# Altium footprint library Power Board UCC28951.PcbLib: 44 footprints (part 2 of 3)
Each footprint in its own frame and in the unit in brackets; x right, y up, seen from the top. Pads: shape width x height; smd on the part's side, far side on the other; paste and mask are expansions set on the pad; w line width, h text height; cw(c..) or ccw(c..) is an arc to the next point about the centre after c.
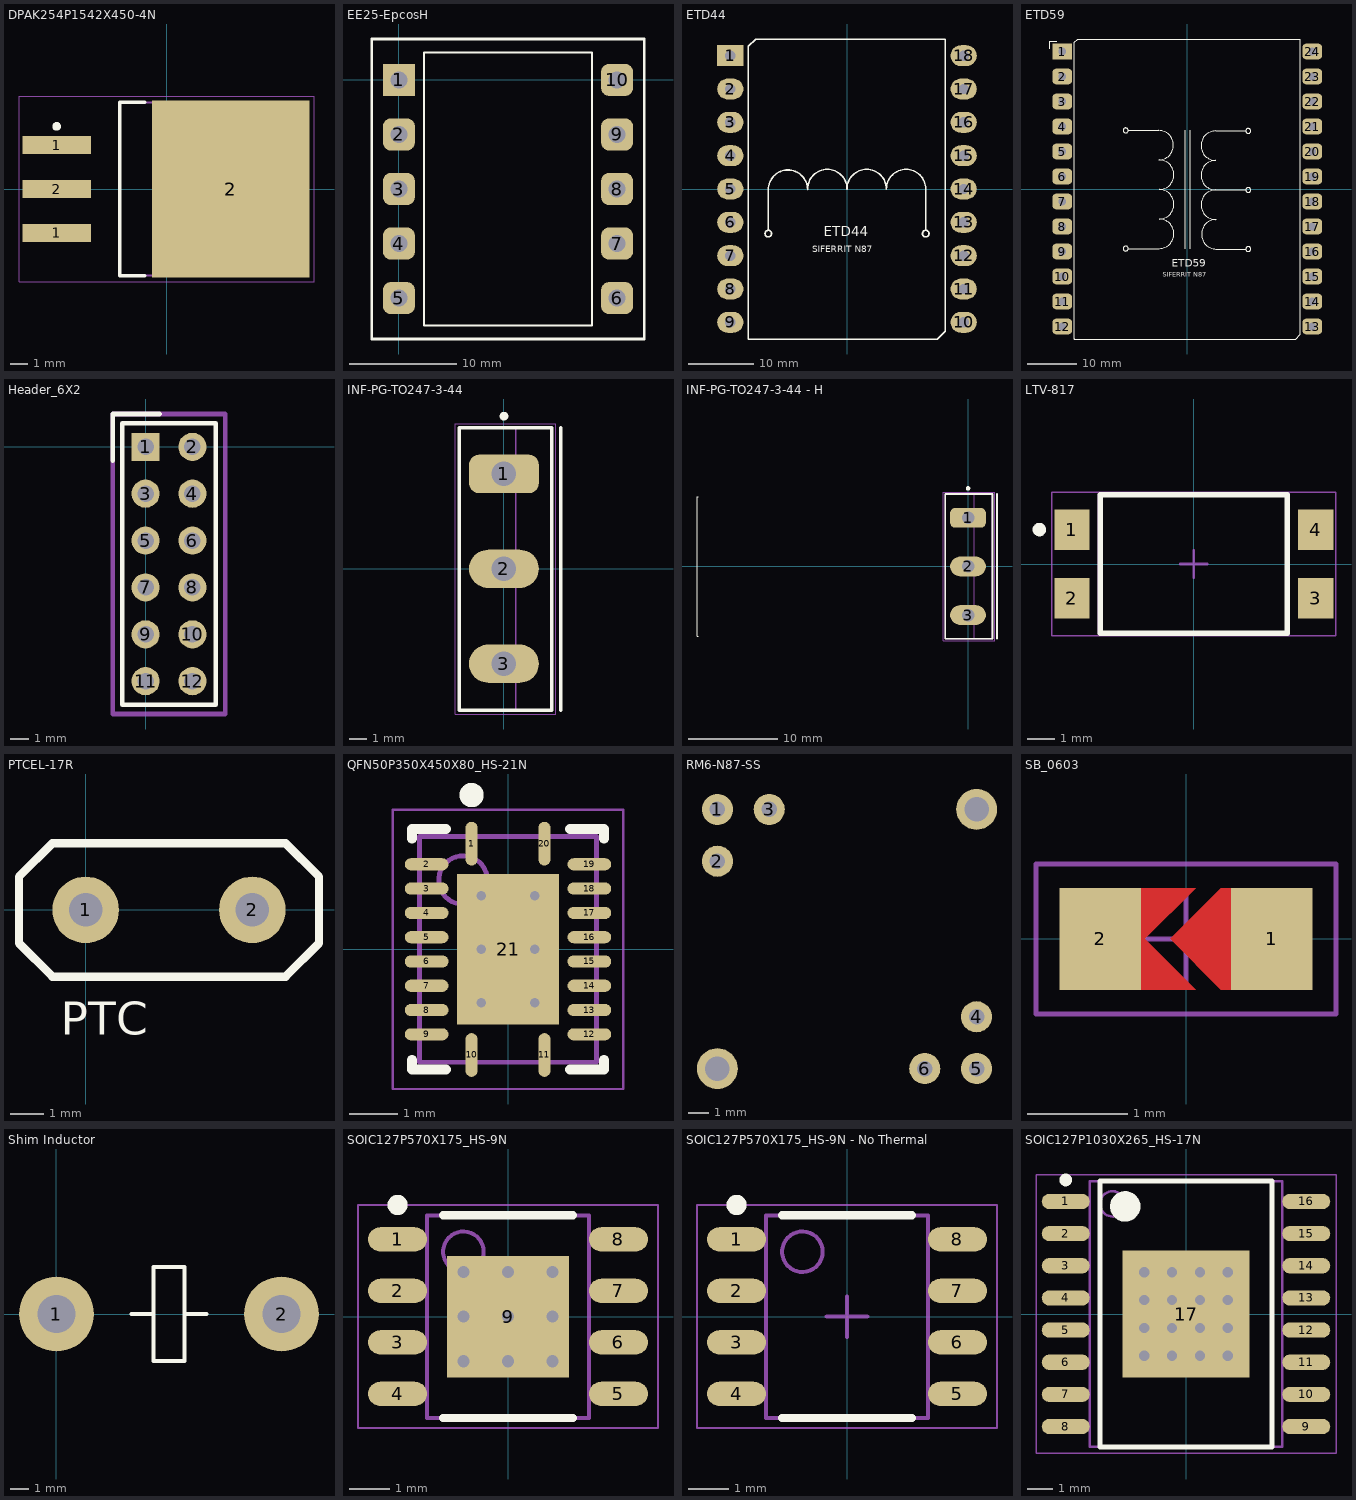
[diagram p1: the footprints below, top view; thin cyan lines are the x and y axes]

## DPAK254P1542X450-4N [mm] "D2-PAK, 3-Pads, Body 7.60x8.36mm (max), IPC Medium Density"
height 4.5
pads (4):
  rect 3.95x1.05 smd: 1(-6.35,-2.54) 1(-6.35,2.54) 2(-6.35,0)
  rect 9.1x10.2 smd: 2(3.7,0)
Top Overlay:
  circle w0.25: c-6.35,3.615 r0.125
  lines w0.2: -1.25,-5 -2.7,-5 -2.7,5 -1.25,5
Mechanical 13:
  lines w0.1: -2.7,-5 -2.7,5 6.3,5 6.3,-5 -2.7,-5
Mechanical 15:
  lines w0.05: -8.525,-5.35 -8.525,5.35 8.525,5.35 8.525,-5.35 -8.525,-5.35
  lines w0.1: -0.5,0 0.5,0 ; 0,-0.5 0,0.5
3D body "TO-263-2.step": height 4.42, standoff 0, extent -7.5,-5 7.5,5

## EE25-EpcosH [mm]
pads (10):
  rect 3x3 hole 1.6: 1(0,0)
  rrect50% 3x3 hole 1.6: 2(0,-5.08) 3(0,-10.16) 4(0,-15.24) 5(0,-20.32) 6(20.32,-20.32) 7(20.32,-15.24) 8(20.32,-10.16) 9(20.32,-5.08) 10(20.32,0)
Top Overlay:
  lines w0.2: 2.335,-22.86 2.335,2.54 11.43,2.54 17.985,2.54 17.985,-22.86 2.335,-22.86
  lines w0.254: -2.54,-24.13 22.86,-24.13 22.86,3.81 -2.54,3.81 -2.54,2.54 -2.54,-24.13
Mechanical 1:
  text "'.Designator'" at 10.033,-18.034 h1.52
3D body "E25-13-7-and-B66208B(horizontal).STEP": height 20.9, standoff -3.1, extent -3.9,-23.91 24.1,3.59

## ETD44 [mm]
pads (18):
  rect 4x3.2 hole 1.6: 1(-17.78,20.32)
  oval 4x3.2 hole 1.6: 2(-17.78,15.24) 3(-17.78,10.16) 4(-17.78,5.08) 5(-17.78,0) 6(-17.78,-5.08) 7(-17.78,-10.16) 8(-17.78,-15.24) 9(-17.78,-20.32) 10(17.78,-20.32) 11(17.78,-15.24) 12(17.78,-10.16) 13(17.78,-5.08) 14(17.78,0) 15(17.78,5.08) 16(17.78,10.16) 17(17.78,15.24) 18(17.78,20.32)
Top Overlay:
  circle w0.254: c-12,-6.8 r0.5
  circle w0.254: c12,-6.8 r0.5
  lines w0.2: -15.03,-22.86 13.765,-22.86 14.945,-21.68 14.945,22.86 1.27,22.86 -13.89,22.86 -15.03,21.72 -15.03,-22.86
  lines w0.254: -12,-6.2 -12,-0.1 cw(c-9,-0.1) -6,-0.1 ; -6,0 cw(c-3,0) 0,0 cw(c3,0) 6,0 cw(c9,0) 12,0 12,-6.2
  text "SIFERRIT N87" at -5.296,-9.621 h1
  text "ETD44" at -3.521,-7.171 h1.52
3D body "User Library-ETD44_NO_AIRGAP.STEP": height 38.1, standoff -4.5, extent -25.5,-24.8 25.5,24.8

## ETD59 [mm]
pads (24):
  rect 4x3.2 hole 1.6: 1(-25.4,27.94)
  rrect50% 4x3.2 hole 1.6: 2(-25.4,22.86) 3(-25.4,17.78) 4(-25.4,12.7) 5(-25.4,7.62) 6(-25.4,2.54) 7(-25.4,-2.54) 8(-25.4,-7.62) 9(-25.4,-12.7) 10(-25.4,-17.78) 11(-25.4,-22.86) 12(-25.4,-27.94) 13(25.4,-27.94) 14(25.4,-22.86) 15(25.4,-17.78) 16(25.4,-12.7) 17(25.4,-7.62) 18(25.4,-2.54) 19(25.4,2.54) 20(25.4,7.62) 21(25.4,12.7) 22(25.4,17.78) 23(25.4,22.86) 24(25.4,27.94)
Top Overlay:
  circle w0.254: c-12.5,11.9 r0.5
  circle w0.254: c-12.5,-12.1 r0.5
  circle w0.254: c12.4,11.8 r0.5
  circle w0.254: c12.4,-0.2 r0.5
  circle w0.254: c12.4,-12.2 r0.5
  lines w0.2: -27.9,28.5 -27.9,29 -27.9,30 -26.5,30 ; -22.965,-30.48 -22.965,29.785 -22.27,30.48 -1.27,30.48 ; -22.965,-30.465 -22.95,-30.48 22.02,-30.48 22.965,-29.535 22.965,30.48 -1.4,30.48 ; -0.4,-12.1 -0.4,11.9 ; 0.6,-12.1 0.6,11.9
  lines w0.254: -11.9,-12.1 -5.7,-12.1 ccw(c-5.7,-9.1) -5.7,-6.1 ccw(c-5.7,-3.1) -5.7,-0.1 ccw(c-5.7,2.9) -5.7,5.9 ; -11.9,11.9 -5.8,11.9 cw(c-5.8,8.9) -5.8,5.9 ; 5.8,-12.2 11.9,-12.2 ; 5.8,-6.2 cw(c5.8,-3.2) 5.8,-0.2 ; 5.9,-12.2 cw(c5.9,-9.2) 5.9,-6.2 ; 11.9,-0.2 5.8,-0.2 ; 11.9,11.8 5.8,11.8 ccw(c5.8,8.8) 5.8,5.8 ccw(c5.8,2.8) 5.8,-0.2
  text "SIFERRIT N87" at -4.946,-17.846 h1
  text "ETD59" at -3.146,-15.846 h1.52
3D body "User Library-ETD59.STEP": height 51.31, standoff -1.69, extent -32.953,-35.86 33.146,31.04

## Header_6X2 [mil]
pads (12):
  rect 60x60 hole 35.43: 1(0,0)
  round 60 hole 35.43: 2(100,0) 3(0,-100) 4(100,-100) 5(0,-200) 6(100,-200) 7(0,-300) 8(100,-300) 9(0,-400) 10(100,-400) 11(0,-500) 12(100,-500)
Top Overlay:
  lines w10: -70,-30 -70,70 30,70 ; -50,-550 -50,50 150,50 150,-550 -30,-550 -50,-550
Mechanical 13:
  lines w10: -70,-570 -70,70 170,70 170,-570 -70,-570
  text "'.Designator'" at -129.99,-600 h60
3D body "PinHeader_2x06_P2.54mm_Horizontal.step": height 200, standoff -118.11, extent -12.59,-550 495.28,50

## INF-PG-TO247-3-44 [mm] "FM, 3-Leads, Body 5.02x15.94mm, Pitch 5.44mm"
height 25.5
pads (3):
  rrect50% 4x2.2 hole 1.4: 1(0,5.44)
  oval 4x2.2 hole 1.4: 2(0,0) 3(0,-5.44)
Top Overlay:
  circle w0.25: c0,8.75 r0.125
  lines w0.2: 3.245,-8.1 3.245,8.1 ; -2.555,-8.1 2.745,-8.1 2.745,8.1 -2.555,8.1 -2.555,-8.1
Mechanical 13:
  lines w0.1: 0.67,-8.075 0.67,8.075 ; -2.53,-8.075 -2.53,8.075 2.72,8.075 2.72,-8.075 -2.53,-8.075
Mechanical 15:
  lines w0.05: -2.78,-8.325 -2.78,8.325 2.97,8.325 2.97,-8.325 -2.78,-8.325
  lines w0.1: -0.5,0 0.5,0 ; 0,-0.5 0,0.5
3D body "TO-247-3_Vertical.step": height 26.54, standoff -14.56, extent -2.33,-7.96 2.7,7.94

## INF-PG-TO247-3-44 - H [mm] "FM, 3-Leads, Body 5.02x15.94mm, Pitch 5.44mm"
height 25.5
pads (3):
  rrect50% 4x2.2 hole 1.4: 1(0,5.44)
  oval 4x2.2 hole 1.4: 2(0,0) 3(0,-5.44)
Top Overlay:
  circle w0.25: c0,8.75 r0.125
  lines w0.05: -30.2,-7.8 -30.35,-7.8 -30.35,7.8 -30.2,7.8
  lines w0.2: 3.245,-8.1 3.245,8.1 ; -2.555,-8.1 2.745,-8.1 2.745,8.1 -2.555,8.1 -2.555,-8.1
Mechanical 13:
  lines w0.1: 0.67,-8.075 0.67,8.075 ; -2.53,-8.075 -2.53,8.075 2.72,8.075 2.72,-8.075 -2.53,-8.075
Mechanical 15:
  lines w0.05: -2.78,-8.325 -2.78,8.325 2.97,8.325 2.97,-8.325 -2.78,-8.325
  lines w0.1: -0.5,0 0.5,0 ; 0,-0.5 0,0.5
3D body "TO-247_horizontal_back_line.stp": height 5.01, standoff -3.59, extent -30.346,-7.8 0.254,7.8

## LTV-817 [mm]
pads (4):
  rect 1.3x1.5 smd: 1(-4.5,1.27) 2(-4.5,-1.27) 3(4.5,-1.27) 4(4.5,1.27)
Top Overlay:
  circle w0.25: c-5.7,1.27 r0.125
  lines w0.2: -3.45,-2.55 3.45,-2.55 3.45,2.55 -3.45,2.55 -3.45,-2.55
Mechanical 13:
  lines w0.1: -3.5,-2.55 3.5,-2.55 3.5,2.55 -3.5,2.55 -3.5,-2.55
Mechanical 15:
  lines w0.05: -5.25,-2.65 5.25,-2.65 5.25,2.65 -5.25,2.65 -5.25,-2.65
  lines w0.1: -0.5,0 0.5,0 ; 0,-0.5 0,0.5
3D body "DIP-4_W7.62mm_SMDSocket.step": height 3.68, standoff 0, extent -4.476,-2.6 4.476,2.6

## PTCEL-17R [mm]
pads (2):
  round 2 hole 1: 1(0,0) 2(5,0)
Top Overlay:
  lines w0.254: -2,-1 -1,-2 6,-2 7,-1 7,1 6,2 -1,2 -2,1 -2,-1
  text "PTC" at -0.746,-3.746 h1
3D body "PTCEL17R.x_t": height 23.5, standoff -20, extent -5.25,-3.5 10.25,3.5

## QFN50P350X450X80_HS-21N [mm] "QFN, 20-Leads, Body 3.50x4.50mm, Pitch 1.50mm/0.50mm, Thermal Pad 2.10x3.10mm, IPC Medium Density"
height 0.8
pads (21):
  oval 0.25x0.9 smd: 1(-0.75,2.175) 10(-0.75,-2.175) 11(0.75,-2.175) 20(0.75,2.175)
  oval 0.9x0.25 smd: 2(-1.675,1.75) 3(-1.675,1.25) 4(-1.675,0.75) 5(-1.675,0.25) 6(-1.675,-0.25) 7(-1.675,-0.75) 8(-1.675,-1.25) 9(-1.675,-1.75) 12(1.675,-1.75) 13(1.675,-1.25) 14(1.675,-0.75) 15(1.675,-0.25) 16(1.675,0.25) 17(1.675,0.75) 18(1.675,1.25) 19(1.675,1.75)
  rect 2.1x3.1 smd: 21(0,0)
via 0.55,-1.1 diameter 0.5 hole 0.2
via -0.55,-1.1 diameter 0.5 hole 0.2
via 0.55,0 diameter 0.5 hole 0.2
via -0.55,0 diameter 0.5 hole 0.2
via 0.55,1.1 diameter 0.5 hole 0.2
via -0.55,1.1 diameter 0.5 hole 0.2
Top Overlay:
  circle w0.25: c-0.75,3.175 r0.125
  lines w0.2: -1.975,-2.275 -1.975,-2.475 -1.275,-2.475 ; -1.975,2.275 -1.975,2.475 -1.275,2.475 ; 1.275,-2.475 1.975,-2.475 1.975,-2.275 ; 1.275,2.475 1.975,2.475 1.975,2.275
Mechanical 13:
  circle w0.1: c-0.925,1.425 r0.5
  lines w0.1: -1.825,-2.325 1.825,-2.325 1.825,2.325 -1.825,2.325 -1.825,-2.325
Mechanical 15:
  lines w0.05: -2.375,-2.875 2.375,-2.875 2.375,2.875 -2.375,2.875 -2.375,-2.875
  lines w0.1: -0.5,0 0.5,0 ; 0,-0.5 0,0.5
3D body "QFN50P350X450X80_HS-21N.step": height 0.8, standoff 0, extent -1.875,-2.375 1.875,2.375

## RM6-N87-SS [mil] "TDK"
pads (8):
  round 60 hole 30: 1(200,700) 2(200,600) 3(300,700) 4(700,300) 5(700,200) 6(600,200)
  round 78.74 hole 47.24: ""(200,200) ""(700,700)
3D body "RM6-K-6P-DS.STEP": height 519.68, standoff -66.93, extent -79.87,-80.2 980.79,980.46

## SB_0603 [mil] "Jumper"
height 39.37
pads (2):
  rect 32x40 smd: 1(33.75,0) 2(-33.75,0)
Top Layer:
  region: -26.25,0 -16.25,0 3.75,-20 -26.25,-20
  region: -26.25,0 -16.25,0 3.75,20 -26.25,20
  region: 23.75,20 13.75,20 -6.25,0 13.75,-20 23.75,-20
Top Paste:
  region: -26.25,0 -16.25,0 3.75,-20 -26.25,-20
  region: -26.25,0 -16.25,0 3.75,20 -26.25,20
  region: 23.75,20 13.75,20 -6.25,0 13.75,-20 23.75,-20
Top Solder:
  region: -26.25,0 -12.25,0 11.75,-24 -26.25,-24
  region: -26.25,0 -12.25,0 11.75,24 -26.25,24
  region: 23.75,24 13.75,24 -10.25,0 13.75,-24 23.75,-24
Mechanical 15:
  lines w1.97: -18.7,0 18.7,0 ; 0,-18.7 0,18.7 ; -59.06,-29.53 59.06,-29.53 59.06,29.53 -59.06,29.53 -59.06,-29.53

## Shim Inductor [mm]
pads (2):
  round 4 hole 2: 1(0,0) 2(12,0)
Top Overlay:
  lines w0.2: 4,0 5.175,0 ; 6.825,0 8,0 ; 5.175,0 5.175,2.5 6.825,2.5 6.825,-2.5 5.175,-2.5 5.175,0
3D body "02.STEP": height 25.26, standoff -2.47, extent -0.859,-12.328 12.71,12.028

## SOIC127P570X175_HS-9N [mm] "SOIC, 8-Leads, Body 4.91x3.90mm, Pitch 1.27mm, Thermal Pad 3.00x3.00mm, IPC Medium Density"
height 1.75
pads (9):
  oval 1.45x0.6 smd: 1(-2.725,1.905) 2(-2.725,0.635) 3(-2.725,-0.635) 4(-2.725,-1.905) 5(2.725,-1.905) 6(2.725,-0.635) 7(2.725,0.635) 8(2.725,1.905)
  rect 3x3 smd: 9(0,0)
via 1.1,-1.1 diameter 0.6 hole 0.3
via 0,-1.1 diameter 0.6 hole 0.3
via -1.1,-1.1 diameter 0.6 hole 0.3
via 1.1,0 diameter 0.6 hole 0.3
via 0,0 diameter 0.6 hole 0.3
via -1.1,0 diameter 0.6 hole 0.3
via 1.1,1.1 diameter 0.6 hole 0.3
via 0,1.1 diameter 0.6 hole 0.3
via -1.1,1.1 diameter 0.6 hole 0.3
Top Overlay:
  circle w0.25: c-2.725,2.755 r0.125
  lines w0.2: -1.6,-2.5 1.6,-2.5 ; -1.6,2.5 1.6,2.5
Mechanical 1:
  text "'.Designator'" at -5.334,-4.493 h1
Mechanical 13:
  circle w0.1: c-1.1,1.6 r0.5
  lines w0.1: -2,-2.5 2,-2.5 2,2.5 -2,2.5 -2,-2.5
Mechanical 15:
  lines w0.05: -3.7,-2.75 3.7,-2.75 3.7,2.75 -3.7,2.75 -3.7,-2.75
  lines w0.1: -0.5,0 0.5,0 ; 0,-0.5 0,0.5
3D body "SOIC127P570X175_HS-9N.step": height 1.75, standoff 0.02, extent -2.767,-2.5 2.767,2.5

## SOIC127P570X175_HS-9N - No Thermal [mm] "SOIC, 8-Leads, Body 4.91x3.90mm, Pitch 1.27mm, Thermal Pad 3.00x3.00mm, IPC Medium Density"
height 1.75
pads (8):
  oval 1.45x0.6 smd: 1(-2.725,1.905) 2(-2.725,0.635) 3(-2.725,-0.635) 4(-2.725,-1.905) 5(2.725,-1.905) 6(2.725,-0.635) 7(2.725,0.635) 8(2.725,1.905)
Top Overlay:
  circle w0.25: c-2.725,2.755 r0.125
  lines w0.2: -1.6,-2.5 1.6,-2.5 ; -1.6,2.5 1.6,2.5
Mechanical 1:
  text "'.Designator'" at -5.334,-4.493 h1
Mechanical 13:
  circle w0.1: c-1.1,1.6 r0.5
  lines w0.1: -2,-2.5 -2,2.5 2,2.5 2,-2.5 -2,-2.5
Mechanical 15:
  lines w0.05: -3.7,-2.75 -3.7,2.75 3.7,2.75 3.7,-2.75 -3.7,-2.75
  lines w0.1: -0.5,0 0.5,0 ; 0,-0.5 0,0.5
3D body "SOIC127P570X175_HS-9N.step": height 1.75, standoff 0.02, extent -2.767,-2.5 2.767,2.5

## SOIC127P1030X265_HS-17N [mm] "SOIC, 16-Leads, Body 10.30x7.50mm, Pitch 1.27mm, Thermal Pad 5.00x5.00mm, IPC Medium Density"
height 2.65
pads (17):
  oval 1.9x0.6 smd: 1(-4.75,4.445) 2(-4.75,3.175) 3(-4.75,1.905) 4(-4.75,0.635) 5(-4.75,-0.635) 6(-4.75,-1.905) 7(-4.75,-3.175) 8(-4.75,-4.445) 9(4.75,-4.445) 10(4.75,-3.175) 11(4.75,-1.905) 12(4.75,-0.635) 13(4.75,0.635) 14(4.75,1.905) 15(4.75,3.175) 16(4.75,4.445)
  rect 5x5 smd: 17(0,0)
via 1.65,-1.65 diameter 0.8 hole 0.4
via 0.55,-1.65 diameter 0.8 hole 0.4
via -0.55,-1.65 diameter 0.8 hole 0.4
via -1.65,-1.65 diameter 0.8 hole 0.4
via 1.65,-0.55 diameter 0.8 hole 0.4
via 0.55,-0.55 diameter 0.8 hole 0.4
via -0.55,-0.55 diameter 0.8 hole 0.4
via -1.65,-0.55 diameter 0.8 hole 0.4
via 1.65,0.55 diameter 0.8 hole 0.4
via 0.55,0.55 diameter 0.8 hole 0.4
via -0.55,0.55 diameter 0.8 hole 0.4
via -1.65,0.55 diameter 0.8 hole 0.4
via 1.65,1.65 diameter 0.8 hole 0.4
via 0.55,1.65 diameter 0.8 hole 0.4
via -0.55,1.65 diameter 0.8 hole 0.4
via -1.65,1.65 diameter 0.8 hole 0.4
Top Overlay:
  circle w0.6: c-2.4,4.25 r0.3
  circle w0.25: c-4.75,5.295 r0.125
  lines w0.2: -3.4,-5.25 3.4,-5.25 3.4,5.25 -3.4,5.25 -3.4,-5.25
Mechanical 13:
  circle w0.1: c-2.9,4.35 r0.5
  lines w0.1: -3.8,-5.25 3.8,-5.25 3.8,5.25 -3.8,5.25 -3.8,-5.25
Mechanical 15:
  lines w0.05: -5.925,-5.5 5.925,-5.5 5.925,5.5 -5.925,5.5 -5.925,-5.5
  lines w0.1: -0.5,0 0.5,0 ; 0,-0.5 0,0.5
3D body "SOIC127P1030X265_HS-17N.step": height 2.65, standoff 0, extent -5.15,-5.25 5.15,5.25